# Altium integrated library teensy3.6-lib.IntLib: 1 symbol
Pins are listed as number, name and electrical type; pins without a type are passive.

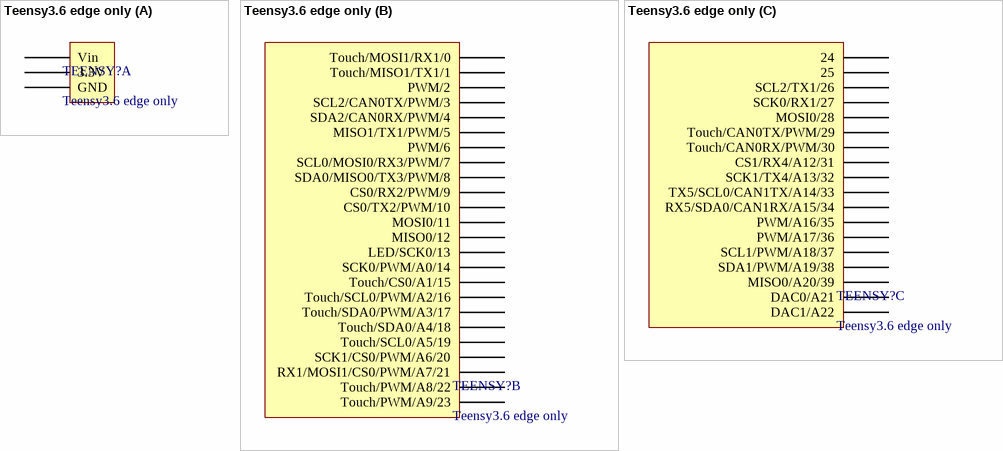
[diagram p0: symbol Teensy3.6 edge only]

## Teensy3.6 edge only
designator TEENSY?
footprint Teensy3.6-edgeonly
part A pins: 3.3V1 3.3V (power), GND1 GND (power), VIN Vin (power)
part B pins: 0 Touch/MOSI1/RX1/0, 1 Touch/MISO1/TX1/1, 2 PWM/2, 3 SCL2/CAN0TX/PWM/3, 4 SDA2/CAN0RX/PWM/4, 5 MISO1/TX1/PWM/5, 6 PWM/6, 7 SCL0/MOSI0/RX3/PWM/7, 8 SDA0/MISO0/TX3/PWM/8, 9 CS0/RX2/PWM/9, 10 CS0/TX2/PWM/10, 11 MOSI0/11, 12 MISO0/12, 13 LED/SCK0/13, 14 SCK0/PWM/A0/14, 15 Touch/CS0/A1/15, 16 Touch/SCL0/PWM/A2/16, 17 Touch/SDA0/PWM/A3/17, 18 Touch/SDA0/A4/18, 19 Touch/SCL0/A5/19, 20 SCK1/CS0/PWM/A6/20, 21 RX1/MOSI1/CS0/PWM/A7/21, 22 Touch/PWM/A8/22, 23 Touch/PWM/A9/23
part C pins: 24, 25, 26 SCL2/TX1/26, 27 SCK0/RX1/27, 28 MOSI0/28, 29 Touch/CAN0TX/PWM/29, 30 Touch/CAN0RX/PWM/30, 31 CS1/RX4/A12/31, 32 SCK1/TX4/A13/32, 33 TX5/SCL0/CAN1TX/A14/33, 34 RX5/SDA0/CAN1RX/A15/34, 35 PWM/A16/35, 36 PWM/A17/36, 37 SCL1/PWM/A18/37, 38 SDA1/PWM/A19/38, 39 MISO0/A20/39, A21 DAC0/A21, A22 DAC1/A22